# EAGLE library part MSD-4-A (library MSD-4-A)
Memory Card Connectors 9 Positions, Push In, Auto Eject Out, SMT, 1.8 mm Height Above Board, Source: Datasheet <https://www.cuidevices.com/product/resource/pdf/msd-4-a.pdf>
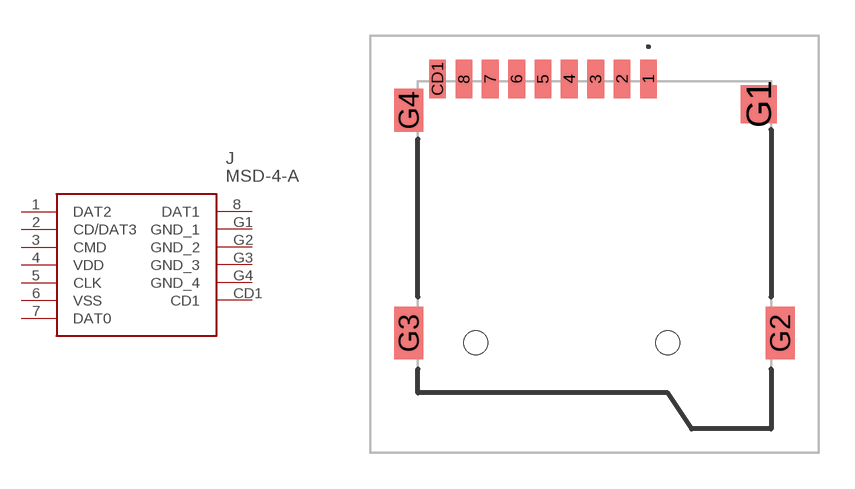
[diagram p0: symbol with the pads of MSD4A; footprint MSD4A]

Designator prefix J

## MSD-4-A (Description: Memory Card Connectors 9 Positions, Push In, Auto Eject Out, SMT, 1.8 mm Height Above Board,; Height: 2mm; Manufacturer_Name: CUI Devices; Manufacturer_Part_Number: MSD-4-A; Mouser_Part_Number: 179-MSD-4-A; Mouser_Price-Stock: https://www.mouser.co.uk/ProductDetail/CUI-Devices/MSD-4-A?qs=Z%252BL2brAPG1Jll%252BQTi%252Btupg%3D%3D)  [MSD4A]
1  DAT2
2  CD/DAT3
3  CMD
4  VDD
5  CLK
6  VSS
7  DAT0
8  DAT1
CD1  CD1
G1  GND_1
G2  GND_2
G3  GND_3
G4  GND_4

## Footprint MSD4A (pad centres in mm)
MSD-4-A-2
smd 0.7 x 1.6: 1 2.25,6.9; 2 1.15,6.9; 3 0.05,6.9; 4 -1.05,6.9; 5 -2.15,6.9; 6 -3.25,6.9; 7 -4.35,6.9; 8 -5.45,6.9; CD1 -6.55,6.9
smd 1.5 x 1.6: G1 6.85,5.85
smd 1.2 x 2.2: G2 7.75,-3.7; G3 -7.75,-3.7
smd 1.2 x 1.8: G4 -7.75,5.6
hole 1 at 3.05,-4.1
hole 1 at -4.95,-4.1